# Altium footprint library 16TQFN_AD.PcbLib: 1 footprints
Each footprint in its own frame and in the unit in brackets; x right, y up, seen from the top. Pads: shape width x height; smd on the part's side, far side on the other; paste and mask are expansions set on the pad; w line width, h text height; cw(c..) or ccw(c..) is an arc to the next point about the centre after c.
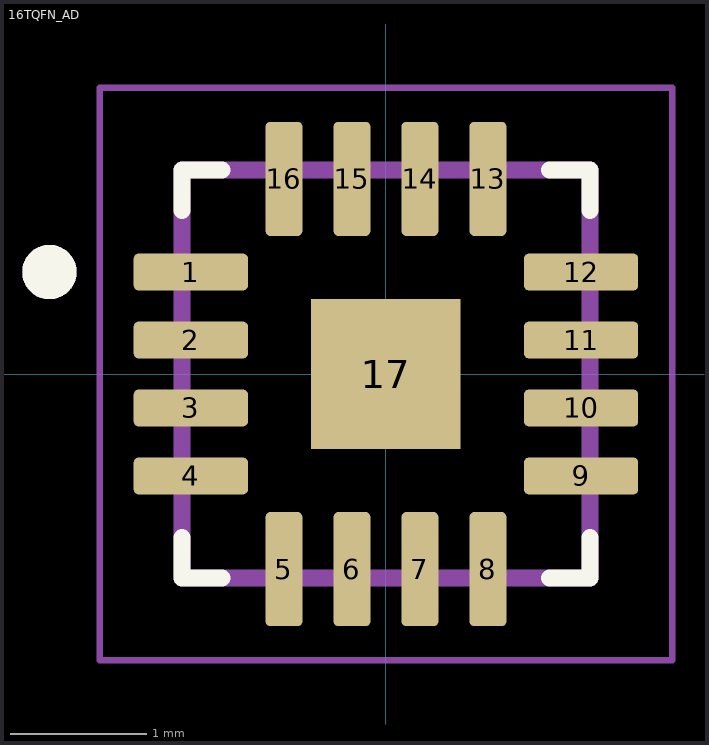
[diagram p0: the footprint, top view; thin cyan lines are the x and y axes]

## 16TQFN_AD [mm]
pads (17):
  rrect25% 0.84x0.27 smd: 1(-1.435,0.75) 2(-1.435,0.25) 3(-1.435,-0.25) 4(-1.435,-0.75) 9(1.435,-0.75) 10(1.435,-0.25) 11(1.435,0.25) 12(1.435,0.75)
  rrect25% 0.27x0.84 smd: 5(-0.75,-1.435) 6(-0.25,-1.435) 7(0.25,-1.435) 8(0.75,-1.435) 13(0.75,1.435) 14(0.25,1.435) 15(-0.25,1.435) 16(-0.75,1.435)
  rect 1.1x1.1 smd paste-0.2: 17(0,0)
Top Overlay:
  circle w0.2: c-2.475,0.75 r0.1
  lines w0.127: -1.5,-1.205 -1.5,-1.5 -1.205,-1.5 ; -1.5,1.205 -1.5,1.5 -1.205,1.5 ; 1.205,-1.5 1.5,-1.5 1.5,-1.205 ; 1.205,1.5 1.5,1.5 1.5,1.205
Top 3D Body:
  circle w0.2: c-2.475,0.75 r0.1
  lines w0.127: -1.5,-1.5 -1.5,1.5 1.5,1.5 1.5,-1.5 -1.5,-1.5
Top Courtyard:
  lines w0.05: -2.105,-2.105 -2.105,2.105 2.105,2.105 2.105,-2.105 -2.105,-2.105
3D body "21-0136I_T1633-4_MXM.step": height 0.81, standoff 0, extent -1.549,-1.549 1.549,1.549